# Altium footprint library Connector_PinSocket_1.27mm.PcbLib: 246 footprints (part 3 of 16)
Each footprint in its own frame and in the unit in brackets; x right, y up, seen from the top. Pads: shape width x height; smd on the part's side, far side on the other; paste and mask are expansions set on the pad; w line width, h text height; cw(c..) or ccw(c..) is an arc to the next point about the centre after c.
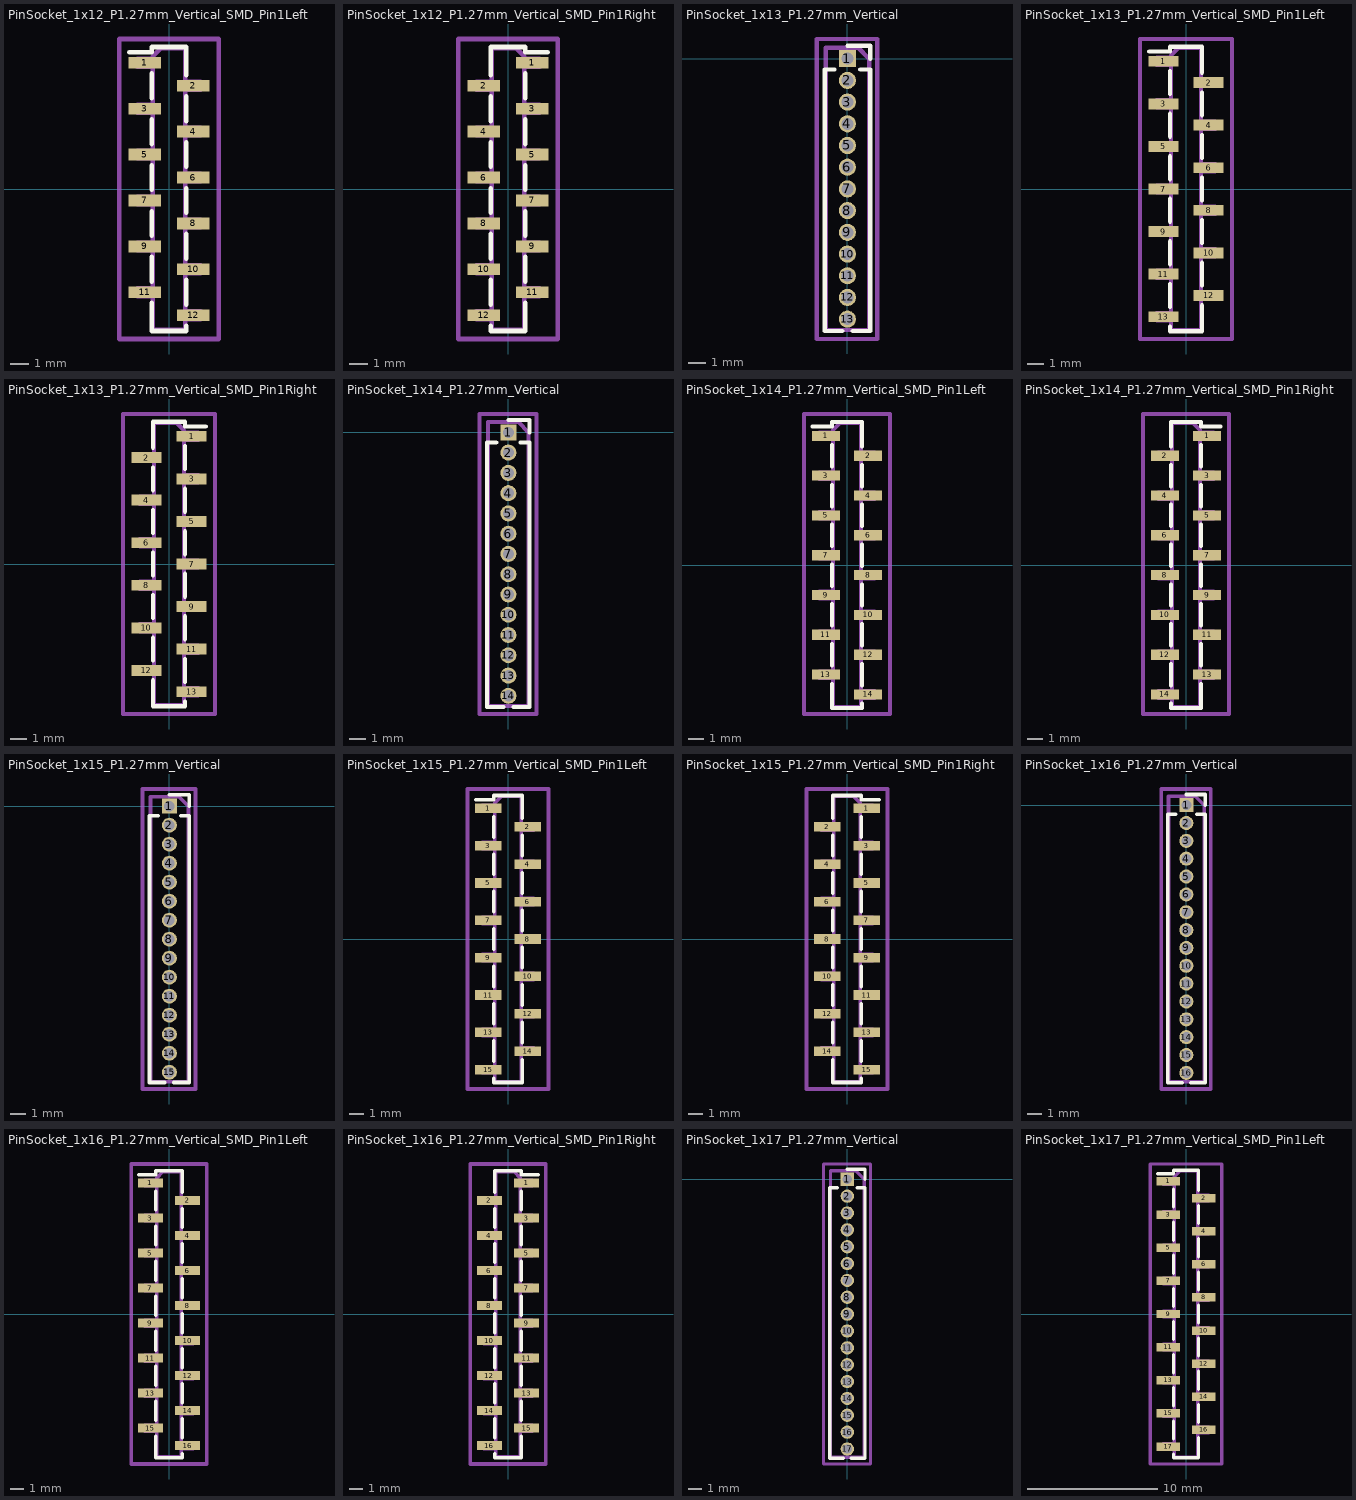
[diagram p2: the footprints below, top view; thin cyan lines are the x and y axes]

## PinSocket_1x12_P1.27mm_Vertical_SMD_Pin1Left [mm]
pads (12):
  rect 1.8x0.65 smd: 1(-1.35,6.985) 2(1.35,5.715) 3(-1.35,4.445) 4(1.35,3.175) 5(-1.35,1.905) 6(1.35,0.635) 7(-1.35,-0.635) 8(1.35,-1.905) 9(-1.35,-3.175) 10(1.35,-4.445) 11(-1.35,-5.715) 12(1.35,-6.985)
F.SilkS:
  lines w0.254: -2.19,7.57 -0.96,7.57 -0.96,7.855 0.96,7.855 0.96,6.3 ; -0.96,-6.3 -0.96,-7.855 0.96,-7.855 0.96,-7.57 ; -0.96,-5.13 -0.96,-3.76 ; -0.96,-2.59 -0.96,-1.22 ; -0.96,-0.05 -0.96,1.32 ; -0.96,2.49 -0.96,3.86 ; -0.96,5.03 -0.96,6.4 ; 0.96,-6.4 0.96,-5.03 ; 0.96,-3.86 0.96,-2.49 ; 0.96,-1.32 0.96,0.05 ; 0.96,1.22 0.96,2.59 ; 0.96,3.76 0.96,5.13
Top Assembly:
  lines w0.254: -0.9,-5.925 -1.75,-5.925 -1.75,-5.505 -0.9,-5.505 ; -0.9,-3.385 -1.75,-3.385 -1.75,-2.965 -0.9,-2.965 ; -0.9,-0.845 -1.75,-0.845 -1.75,-0.425 -0.9,-0.425 ; -0.9,1.695 -1.75,1.695 -1.75,2.115 -0.9,2.115 ; -0.9,4.235 -1.75,4.235 -1.75,4.655 -0.9,4.655 ; -0.9,6.775 -1.75,6.775 -1.75,7.195 -0.9,7.195 ; 0.9,-7.195 1.75,-7.195 1.75,-6.775 0.9,-6.775 ; 0.9,-4.655 1.75,-4.655 1.75,-4.235 0.9,-4.235 ; 0.9,-2.115 1.75,-2.115 1.75,-1.695 0.9,-1.695 ; 0.9,0.425 1.75,0.425 1.75,0.845 0.9,0.845 ; 0.9,2.965 1.75,2.965 1.75,3.385 0.9,3.385 ; 0.9,5.505 1.75,5.505 1.75,5.925 0.9,5.925 ; -0.9,-7.795 0.9,-7.795 0.9,7.795 -0.45,7.795 -0.9,7.345 -0.9,-7.795
  text "'.Designator'" at 0.84,-4.047 h1
Top Courtyard:
  lines w0.254: -2.75,-8.3 2.75,-8.3 2.75,8.3 -2.75,8.3 -2.75,-8.3
Top Designator:
  text ".Designator" at -7.618,-0.508 h1.52

## PinSocket_1x12_P1.27mm_Vertical_SMD_Pin1Right [mm]
pads (12):
  rect 1.8x0.65 smd: 1(1.35,6.985) 2(-1.35,5.715) 3(1.35,4.445) 4(-1.35,3.175) 5(1.35,1.905) 6(-1.35,0.635) 7(1.35,-0.635) 8(-1.35,-1.905) 9(1.35,-3.175) 10(-1.35,-4.445) 11(1.35,-5.715) 12(-1.35,-6.985)
F.SilkS:
  lines w0.254: -0.96,-7.57 -0.96,-7.855 0.96,-7.855 0.96,-6.3 ; -0.96,-6.4 -0.96,-5.03 ; -0.96,-3.86 -0.96,-2.49 ; -0.96,-1.32 -0.96,0.05 ; -0.96,1.22 -0.96,2.59 ; -0.96,3.76 -0.96,5.13 ; -0.96,6.3 -0.96,7.855 0.96,7.855 0.96,7.57 2.19,7.57 ; 0.96,-5.13 0.96,-3.76 ; 0.96,-2.59 0.96,-1.22 ; 0.96,-0.05 0.96,1.32 ; 0.96,2.49 0.96,3.86 ; 0.96,5.03 0.96,6.4
Top Assembly:
  lines w0.254: -0.9,-7.195 -1.75,-7.195 -1.75,-6.775 -0.9,-6.775 ; -0.9,-4.655 -1.75,-4.655 -1.75,-4.235 -0.9,-4.235 ; -0.9,-2.115 -1.75,-2.115 -1.75,-1.695 -0.9,-1.695 ; -0.9,0.425 -1.75,0.425 -1.75,0.845 -0.9,0.845 ; -0.9,2.965 -1.75,2.965 -1.75,3.385 -0.9,3.385 ; -0.9,5.505 -1.75,5.505 -1.75,5.925 -0.9,5.925 ; 0.9,-5.925 1.75,-5.925 1.75,-5.505 0.9,-5.505 ; 0.9,-3.385 1.75,-3.385 1.75,-2.965 0.9,-2.965 ; 0.9,-0.845 1.75,-0.845 1.75,-0.425 0.9,-0.425 ; 0.9,1.695 1.75,1.695 1.75,2.115 0.9,2.115 ; 0.9,4.235 1.75,4.235 1.75,4.655 0.9,4.655 ; 0.9,6.775 1.75,6.775 1.75,7.195 0.9,7.195 ; -0.9,-7.795 0.9,-7.795 0.9,7.345 0.45,7.795 -0.9,7.795 -0.9,-7.795
  text "'.Designator'" at 0.84,-4.047 h1
Top Courtyard:
  lines w0.254: -2.75,-8.3 2.75,-8.3 2.75,8.3 -2.75,8.3 -2.75,-8.3
Top Designator:
  text ".Designator" at -7.618,-0.508 h1.52

## PinSocket_1x13_P1.27mm_Vertical [mm]
pads (13):
  rect 1x1 hole 0.7: 1(0,0)
  round 1 hole 0.7: 2(0,-1.27) 3(0,-2.54) 4(0,-3.81) 5(0,-5.08) 6(0,-6.35) 7(0,-7.62) 8(0,-8.89) 9(0,-10.16) 10(0,-11.43) 11(0,-12.7) 12(0,-13.97) 13(0,-15.24)
F.SilkS:
  lines w0.254: -0.76,-0.635 -1.33,-0.635 -1.33,-15.935 -0.308,-15.935 ; 0,0.76 1.33,0.76 1.33,0 ; 0.308,-15.935 1.33,-15.935 1.33,-0.635 0.76,-0.635
Top Assembly:
  lines w0.254: -1.27,-15.875 1.27,-15.875 1.27,0 0.635,0.635 -1.27,0.635 -1.27,-15.875
  text "'.Designator'" at 0.84,-11.667 h1
Top Courtyard:
  lines w0.254: -1.8,-16.4 1.75,-16.4 1.75,1.15 -1.8,1.15 -1.8,-16.4
Top Designator:
  text ".Designator" at -7.643,-8.133 h1.52

## PinSocket_1x13_P1.27mm_Vertical_SMD_Pin1Left [mm]
pads (13):
  rect 1.8x0.65 smd: 1(-1.35,7.62) 2(1.35,6.35) 3(-1.35,5.08) 4(1.35,3.81) 5(-1.35,2.54) 6(1.35,1.27) 7(-1.35,0) 8(1.35,-1.27) 9(-1.35,-2.54) 10(1.35,-3.81) 11(-1.35,-5.08) 12(1.35,-6.35) 13(-1.35,-7.62)
F.SilkS:
  lines w0.254: -2.19,8.205 -0.96,8.205 -0.96,8.49 0.96,8.49 0.96,6.935 ; -0.96,-8.205 -0.96,-8.49 0.96,-8.49 0.96,-6.935 ; -0.96,-7.035 -0.96,-5.665 ; -0.96,-4.495 -0.96,-3.125 ; -0.96,-1.955 -0.96,-0.585 ; -0.96,0.585 -0.96,1.955 ; -0.96,3.125 -0.96,4.495 ; -0.96,5.665 -0.96,7.035 ; 0.96,-5.765 0.96,-4.395 ; 0.96,-3.225 0.96,-1.855 ; 0.96,-0.685 0.96,0.685 ; 0.96,1.855 0.96,3.225 ; 0.96,4.395 0.96,5.765
Top Assembly:
  lines w0.254: -0.9,-7.83 -1.75,-7.83 -1.75,-7.41 -0.9,-7.41 ; -0.9,-5.29 -1.75,-5.29 -1.75,-4.87 -0.9,-4.87 ; -0.9,-2.75 -1.75,-2.75 -1.75,-2.33 -0.9,-2.33 ; -0.9,-0.21 -1.75,-0.21 -1.75,0.21 -0.9,0.21 ; -0.9,2.33 -1.75,2.33 -1.75,2.75 -0.9,2.75 ; -0.9,4.87 -1.75,4.87 -1.75,5.29 -0.9,5.29 ; -0.9,7.41 -1.75,7.41 -1.75,7.83 -0.9,7.83 ; 0.9,-6.56 1.75,-6.56 1.75,-6.14 0.9,-6.14 ; 0.9,-4.02 1.75,-4.02 1.75,-3.6 0.9,-3.6 ; 0.9,-1.48 1.75,-1.48 1.75,-1.06 0.9,-1.06 ; 0.9,1.06 1.75,1.06 1.75,1.48 0.9,1.48 ; 0.9,3.6 1.75,3.6 1.75,4.02 0.9,4.02 ; 0.9,6.14 1.75,6.14 1.75,6.56 0.9,6.56 ; -0.9,-8.43 0.9,-8.43 0.9,8.43 -0.45,8.43 -0.9,7.98 -0.9,-8.43
  text "'.Designator'" at 0.84,-4.047 h1
Top Courtyard:
  lines w0.254: -2.75,-8.95 2.75,-8.95 2.75,8.95 -2.75,8.95 -2.75,-8.95
Top Designator:
  text ".Designator" at -7.618,-0.508 h1.52

## PinSocket_1x13_P1.27mm_Vertical_SMD_Pin1Right [mm]
pads (13):
  rect 1.8x0.65 smd: 1(1.35,7.62) 2(-1.35,6.35) 3(1.35,5.08) 4(-1.35,3.81) 5(1.35,2.54) 6(-1.35,1.27) 7(1.35,0) 8(-1.35,-1.27) 9(1.35,-2.54) 10(-1.35,-3.81) 11(1.35,-5.08) 12(-1.35,-6.35) 13(1.35,-7.62)
F.SilkS:
  lines w0.254: -0.96,-6.935 -0.96,-8.49 0.96,-8.49 0.96,-8.205 ; -0.96,-5.765 -0.96,-4.395 ; -0.96,-3.225 -0.96,-1.855 ; -0.96,-0.685 -0.96,0.685 ; -0.96,1.855 -0.96,3.225 ; -0.96,4.395 -0.96,5.765 ; -0.96,6.935 -0.96,8.49 0.96,8.49 0.96,8.205 2.19,8.205 ; 0.96,-7.035 0.96,-5.665 ; 0.96,-4.495 0.96,-3.125 ; 0.96,-1.955 0.96,-0.585 ; 0.96,0.585 0.96,1.955 ; 0.96,3.125 0.96,4.495 ; 0.96,5.665 0.96,7.035
Top Assembly:
  lines w0.254: -0.9,-6.56 -1.75,-6.56 -1.75,-6.14 -0.9,-6.14 ; -0.9,-4.02 -1.75,-4.02 -1.75,-3.6 -0.9,-3.6 ; -0.9,-1.48 -1.75,-1.48 -1.75,-1.06 -0.9,-1.06 ; -0.9,1.06 -1.75,1.06 -1.75,1.48 -0.9,1.48 ; -0.9,3.6 -1.75,3.6 -1.75,4.02 -0.9,4.02 ; -0.9,6.14 -1.75,6.14 -1.75,6.56 -0.9,6.56 ; 0.9,-7.83 1.75,-7.83 1.75,-7.41 0.9,-7.41 ; 0.9,-5.29 1.75,-5.29 1.75,-4.87 0.9,-4.87 ; 0.9,-2.75 1.75,-2.75 1.75,-2.33 0.9,-2.33 ; 0.9,-0.21 1.75,-0.21 1.75,0.21 0.9,0.21 ; 0.9,2.33 1.75,2.33 1.75,2.75 0.9,2.75 ; 0.9,4.87 1.75,4.87 1.75,5.29 0.9,5.29 ; 0.9,7.41 1.75,7.41 1.75,7.83 0.9,7.83 ; -0.9,-8.43 0.9,-8.43 0.9,7.98 0.45,8.43 -0.9,8.43 -0.9,-8.43
  text "'.Designator'" at 0.84,-4.047 h1
Top Courtyard:
  lines w0.254: -2.75,-8.95 2.75,-8.95 2.75,8.95 -2.75,8.95 -2.75,-8.95
Top Designator:
  text ".Designator" at -7.618,-0.508 h1.52

## PinSocket_1x14_P1.27mm_Vertical [mm]
pads (14):
  rect 1x1 hole 0.7: 1(0,0)
  round 1 hole 0.7: 2(0,-1.27) 3(0,-2.54) 4(0,-3.81) 5(0,-5.08) 6(0,-6.35) 7(0,-7.62) 8(0,-8.89) 9(0,-10.16) 10(0,-11.43) 11(0,-12.7) 12(0,-13.97) 13(0,-15.24) 14(0,-16.51)
F.SilkS:
  lines w0.254: -0.76,-0.635 -1.33,-0.635 -1.33,-17.205 -0.308,-17.205 ; 0,0.76 1.33,0.76 1.33,0 ; 0.308,-17.205 1.33,-17.205 1.33,-0.635 0.76,-0.635
Top Assembly:
  lines w0.254: -1.27,-17.145 1.27,-17.145 1.27,0 0.635,0.635 -1.27,0.635 -1.27,-17.145
  text "'.Designator'" at 0.84,-12.302 h1
Top Courtyard:
  lines w0.254: -1.8,-17.65 1.75,-17.65 1.75,1.15 -1.8,1.15 -1.8,-17.65
Top Designator:
  text ".Designator" at -7.643,-8.758 h1.52

## PinSocket_1x14_P1.27mm_Vertical_SMD_Pin1Left [mm]
pads (14):
  rect 1.8x0.65 smd: 1(-1.35,8.255) 2(1.35,6.985) 3(-1.35,5.715) 4(1.35,4.445) 5(-1.35,3.175) 6(1.35,1.905) 7(-1.35,0.635) 8(1.35,-0.635) 9(-1.35,-1.905) 10(1.35,-3.175) 11(-1.35,-4.445) 12(1.35,-5.715) 13(-1.35,-6.985) 14(1.35,-8.255)
F.SilkS:
  lines w0.254: -2.19,8.84 -0.96,8.84 -0.96,9.125 0.96,9.125 0.96,7.57 ; -0.96,-7.57 -0.96,-9.125 0.96,-9.125 0.96,-8.84 ; -0.96,-6.4 -0.96,-5.03 ; -0.96,-3.86 -0.96,-2.49 ; -0.96,-1.32 -0.96,0.05 ; -0.96,1.22 -0.96,2.59 ; -0.96,3.76 -0.96,5.13 ; -0.96,6.3 -0.96,7.67 ; 0.96,-7.67 0.96,-6.3 ; 0.96,-5.13 0.96,-3.76 ; 0.96,-2.59 0.96,-1.22 ; 0.96,-0.05 0.96,1.32 ; 0.96,2.49 0.96,3.86 ; 0.96,5.03 0.96,6.4
Top Assembly:
  lines w0.254: -0.9,-7.195 -1.75,-7.195 -1.75,-6.775 -0.9,-6.775 ; -0.9,-4.655 -1.75,-4.655 -1.75,-4.235 -0.9,-4.235 ; -0.9,-2.115 -1.75,-2.115 -1.75,-1.695 -0.9,-1.695 ; -0.9,0.425 -1.75,0.425 -1.75,0.845 -0.9,0.845 ; -0.9,2.965 -1.75,2.965 -1.75,3.385 -0.9,3.385 ; -0.9,5.505 -1.75,5.505 -1.75,5.925 -0.9,5.925 ; -0.9,8.045 -1.75,8.045 -1.75,8.465 -0.9,8.465 ; 0.9,-8.465 1.75,-8.465 1.75,-8.045 0.9,-8.045 ; 0.9,-5.925 1.75,-5.925 1.75,-5.505 0.9,-5.505 ; 0.9,-3.385 1.75,-3.385 1.75,-2.965 0.9,-2.965 ; 0.9,-0.845 1.75,-0.845 1.75,-0.425 0.9,-0.425 ; 0.9,1.695 1.75,1.695 1.75,2.115 0.9,2.115 ; 0.9,4.235 1.75,4.235 1.75,4.655 0.9,4.655 ; 0.9,6.775 1.75,6.775 1.75,7.195 0.9,7.195 ; -0.9,-9.065 0.9,-9.065 0.9,9.065 -0.45,9.065 -0.9,8.615 -0.9,-9.065
  text "'.Designator'" at 0.84,-4.047 h1
Top Courtyard:
  lines w0.254: -2.75,-9.5 2.75,-9.5 2.75,9.65 -2.75,9.65 -2.75,-9.5
Top Designator:
  text ".Designator" at -7.618,-0.433 h1.52

## PinSocket_1x14_P1.27mm_Vertical_SMD_Pin1Right [mm]
pads (14):
  rect 1.8x0.65 smd: 1(1.35,8.255) 2(-1.35,6.985) 3(1.35,5.715) 4(-1.35,4.445) 5(1.35,3.175) 6(-1.35,1.905) 7(1.35,0.635) 8(-1.35,-0.635) 9(1.35,-1.905) 10(-1.35,-3.175) 11(1.35,-4.445) 12(-1.35,-5.715) 13(1.35,-6.985) 14(-1.35,-8.255)
F.SilkS:
  lines w0.254: -0.96,-8.84 -0.96,-9.125 0.96,-9.125 0.96,-7.57 ; -0.96,-7.67 -0.96,-6.3 ; -0.96,-5.13 -0.96,-3.76 ; -0.96,-2.59 -0.96,-1.22 ; -0.96,-0.05 -0.96,1.32 ; -0.96,2.49 -0.96,3.86 ; -0.96,5.03 -0.96,6.4 ; -0.96,7.57 -0.96,9.125 0.96,9.125 0.96,8.84 2.19,8.84 ; 0.96,-6.4 0.96,-5.03 ; 0.96,-3.86 0.96,-2.49 ; 0.96,-1.32 0.96,0.05 ; 0.96,1.22 0.96,2.59 ; 0.96,3.76 0.96,5.13 ; 0.96,6.3 0.96,7.67
Top Assembly:
  lines w0.254: -0.9,-8.465 -1.75,-8.465 -1.75,-8.045 -0.9,-8.045 ; -0.9,-5.925 -1.75,-5.925 -1.75,-5.505 -0.9,-5.505 ; -0.9,-3.385 -1.75,-3.385 -1.75,-2.965 -0.9,-2.965 ; -0.9,-0.845 -1.75,-0.845 -1.75,-0.425 -0.9,-0.425 ; -0.9,1.695 -1.75,1.695 -1.75,2.115 -0.9,2.115 ; -0.9,4.235 -1.75,4.235 -1.75,4.655 -0.9,4.655 ; -0.9,6.775 -1.75,6.775 -1.75,7.195 -0.9,7.195 ; 0.9,-7.195 1.75,-7.195 1.75,-6.775 0.9,-6.775 ; 0.9,-4.655 1.75,-4.655 1.75,-4.235 0.9,-4.235 ; 0.9,-2.115 1.75,-2.115 1.75,-1.695 0.9,-1.695 ; 0.9,0.425 1.75,0.425 1.75,0.845 0.9,0.845 ; 0.9,2.965 1.75,2.965 1.75,3.385 0.9,3.385 ; 0.9,5.505 1.75,5.505 1.75,5.925 0.9,5.925 ; 0.9,8.045 1.75,8.045 1.75,8.465 0.9,8.465 ; -0.9,-9.065 0.9,-9.065 0.9,8.615 0.45,9.065 -0.9,9.065 -0.9,-9.065
  text "'.Designator'" at 0.84,-4.047 h1
Top Courtyard:
  lines w0.254: -2.75,-9.5 2.75,-9.5 2.75,9.65 -2.75,9.65 -2.75,-9.5
Top Designator:
  text ".Designator" at -7.618,-0.433 h1.52

## PinSocket_1x15_P1.27mm_Vertical [mm]
pads (15):
  rect 1x1 hole 0.7: 1(0,0)
  round 1 hole 0.7: 2(0,-1.27) 3(0,-2.54) 4(0,-3.81) 5(0,-5.08) 6(0,-6.35) 7(0,-7.62) 8(0,-8.89) 9(0,-10.16) 10(0,-11.43) 11(0,-12.7) 12(0,-13.97) 13(0,-15.24) 14(0,-16.51) 15(0,-17.78)
F.SilkS:
  lines w0.254: -0.76,-0.635 -1.33,-0.635 -1.33,-18.475 -0.308,-18.475 ; 0,0.76 1.33,0.76 1.33,0 ; 0.308,-18.475 1.33,-18.475 1.33,-0.635 0.76,-0.635
Top Assembly:
  lines w0.254: -1.27,-18.415 1.27,-18.415 1.27,0 0.635,0.635 -1.27,0.635 -1.27,-18.415
  text "'.Designator'" at 0.84,-12.937 h1
Top Courtyard:
  lines w0.254: -1.8,-18.9 1.75,-18.9 1.75,1.15 -1.8,1.15 -1.8,-18.9
Top Designator:
  text ".Designator" at -7.643,-9.383 h1.52

## PinSocket_1x15_P1.27mm_Vertical_SMD_Pin1Left [mm]
pads (15):
  rect 1.8x0.65 smd: 1(-1.35,8.89) 2(1.35,7.62) 3(-1.35,6.35) 4(1.35,5.08) 5(-1.35,3.81) 6(1.35,2.54) 7(-1.35,1.27) 8(1.35,0) 9(-1.35,-1.27) 10(1.35,-2.54) 11(-1.35,-3.81) 12(1.35,-5.08) 13(-1.35,-6.35) 14(1.35,-7.62) 15(-1.35,-8.89)
F.SilkS:
  lines w0.254: -2.19,9.475 -0.96,9.475 -0.96,9.76 0.96,9.76 0.96,8.205 ; -0.96,-9.475 -0.96,-9.76 0.96,-9.76 0.96,-8.205 ; -0.96,-8.305 -0.96,-6.935 ; -0.96,-5.765 -0.96,-4.395 ; -0.96,-3.225 -0.96,-1.855 ; -0.96,-0.685 -0.96,0.685 ; -0.96,1.855 -0.96,3.225 ; -0.96,4.395 -0.96,5.765 ; -0.96,6.935 -0.96,8.305 ; 0.96,-7.035 0.96,-5.665 ; 0.96,-4.495 0.96,-3.125 ; 0.96,-1.955 0.96,-0.585 ; 0.96,0.585 0.96,1.955 ; 0.96,3.125 0.96,4.495 ; 0.96,5.665 0.96,7.035
Top Assembly:
  lines w0.254: -0.9,-9.1 -1.75,-9.1 -1.75,-8.68 -0.9,-8.68 ; -0.9,-6.56 -1.75,-6.56 -1.75,-6.14 -0.9,-6.14 ; -0.9,-4.02 -1.75,-4.02 -1.75,-3.6 -0.9,-3.6 ; -0.9,-1.48 -1.75,-1.48 -1.75,-1.06 -0.9,-1.06 ; -0.9,1.06 -1.75,1.06 -1.75,1.48 -0.9,1.48 ; -0.9,3.6 -1.75,3.6 -1.75,4.02 -0.9,4.02 ; -0.9,6.14 -1.75,6.14 -1.75,6.56 -0.9,6.56 ; -0.9,8.68 -1.75,8.68 -1.75,9.1 -0.9,9.1 ; 0.9,-7.83 1.75,-7.83 1.75,-7.41 0.9,-7.41 ; 0.9,-5.29 1.75,-5.29 1.75,-4.87 0.9,-4.87 ; 0.9,-2.75 1.75,-2.75 1.75,-2.33 0.9,-2.33 ; 0.9,-0.21 1.75,-0.21 1.75,0.21 0.9,0.21 ; 0.9,2.33 1.75,2.33 1.75,2.75 0.9,2.75 ; 0.9,4.87 1.75,4.87 1.75,5.29 0.9,5.29 ; 0.9,7.41 1.75,7.41 1.75,7.83 0.9,7.83 ; -0.9,-9.7 0.9,-9.7 0.9,9.7 -0.45,9.7 -0.9,9.25 -0.9,-9.7
  text "'.Designator'" at 0.84,-4.047 h1
Top Courtyard:
  lines w0.254: -2.75,-10.2 2.75,-10.2 2.75,10.2 -2.75,10.2 -2.75,-10.2
Top Designator:
  text ".Designator" at -7.618,-0.508 h1.52

## PinSocket_1x15_P1.27mm_Vertical_SMD_Pin1Right [mm]
pads (15):
  rect 1.8x0.65 smd: 1(1.35,8.89) 2(-1.35,7.62) 3(1.35,6.35) 4(-1.35,5.08) 5(1.35,3.81) 6(-1.35,2.54) 7(1.35,1.27) 8(-1.35,0) 9(1.35,-1.27) 10(-1.35,-2.54) 11(1.35,-3.81) 12(-1.35,-5.08) 13(1.35,-6.35) 14(-1.35,-7.62) 15(1.35,-8.89)
F.SilkS:
  lines w0.254: -0.96,-8.205 -0.96,-9.76 0.96,-9.76 0.96,-9.475 ; -0.96,-7.035 -0.96,-5.665 ; -0.96,-4.495 -0.96,-3.125 ; -0.96,-1.955 -0.96,-0.585 ; -0.96,0.585 -0.96,1.955 ; -0.96,3.125 -0.96,4.495 ; -0.96,5.665 -0.96,7.035 ; -0.96,8.205 -0.96,9.76 0.96,9.76 0.96,9.475 2.19,9.475 ; 0.96,-8.305 0.96,-6.935 ; 0.96,-5.765 0.96,-4.395 ; 0.96,-3.225 0.96,-1.855 ; 0.96,-0.685 0.96,0.685 ; 0.96,1.855 0.96,3.225 ; 0.96,4.395 0.96,5.765 ; 0.96,6.935 0.96,8.305
Top Assembly:
  lines w0.254: -0.9,-7.83 -1.75,-7.83 -1.75,-7.41 -0.9,-7.41 ; -0.9,-5.29 -1.75,-5.29 -1.75,-4.87 -0.9,-4.87 ; -0.9,-2.75 -1.75,-2.75 -1.75,-2.33 -0.9,-2.33 ; -0.9,-0.21 -1.75,-0.21 -1.75,0.21 -0.9,0.21 ; -0.9,2.33 -1.75,2.33 -1.75,2.75 -0.9,2.75 ; -0.9,4.87 -1.75,4.87 -1.75,5.29 -0.9,5.29 ; -0.9,7.41 -1.75,7.41 -1.75,7.83 -0.9,7.83 ; 0.9,-9.1 1.75,-9.1 1.75,-8.68 0.9,-8.68 ; 0.9,-6.56 1.75,-6.56 1.75,-6.14 0.9,-6.14 ; 0.9,-4.02 1.75,-4.02 1.75,-3.6 0.9,-3.6 ; 0.9,-1.48 1.75,-1.48 1.75,-1.06 0.9,-1.06 ; 0.9,1.06 1.75,1.06 1.75,1.48 0.9,1.48 ; 0.9,3.6 1.75,3.6 1.75,4.02 0.9,4.02 ; 0.9,6.14 1.75,6.14 1.75,6.56 0.9,6.56 ; 0.9,8.68 1.75,8.68 1.75,9.1 0.9,9.1 ; -0.9,-9.7 0.9,-9.7 0.9,9.25 0.45,9.7 -0.9,9.7 -0.9,-9.7
  text "'.Designator'" at 0.84,-4.047 h1
Top Courtyard:
  lines w0.254: -2.75,-10.2 2.75,-10.2 2.75,10.2 -2.75,10.2 -2.75,-10.2
Top Designator:
  text ".Designator" at -7.618,-0.508 h1.52

## PinSocket_1x16_P1.27mm_Vertical [mm]
pads (16):
  rect 1x1 hole 0.7: 1(0,0)
  round 1 hole 0.7: 2(0,-1.27) 3(0,-2.54) 4(0,-3.81) 5(0,-5.08) 6(0,-6.35) 7(0,-7.62) 8(0,-8.89) 9(0,-10.16) 10(0,-11.43) 11(0,-12.7) 12(0,-13.97) 13(0,-15.24) 14(0,-16.51) 15(0,-17.78) 16(0,-19.05)
F.SilkS:
  lines w0.254: -0.76,-0.635 -1.33,-0.635 -1.33,-19.745 -0.308,-19.745 ; 0,0.76 1.33,0.76 1.33,0 ; 0.308,-19.745 1.33,-19.745 1.33,-0.635 0.76,-0.635
Top Assembly:
  lines w0.254: -1.27,-19.685 1.27,-19.685 1.27,0 0.635,0.635 -1.27,0.635 -1.27,-19.685
  text "'.Designator'" at 0.84,-13.572 h1
Top Courtyard:
  lines w0.254: -1.8,-20.2 1.75,-20.2 1.75,1.15 -1.8,1.15 -1.8,-20.2
Top Designator:
  text ".Designator" at -7.643,-10.033 h1.52

## PinSocket_1x16_P1.27mm_Vertical_SMD_Pin1Left [mm]
pads (16):
  rect 1.8x0.65 smd: 1(-1.35,9.525) 2(1.35,8.255) 3(-1.35,6.985) 4(1.35,5.715) 5(-1.35,4.445) 6(1.35,3.175) 7(-1.35,1.905) 8(1.35,0.635) 9(-1.35,-0.635) 10(1.35,-1.905) 11(-1.35,-3.175) 12(1.35,-4.445) 13(-1.35,-5.715) 14(1.35,-6.985) 15(-1.35,-8.255) 16(1.35,-9.525)
F.SilkS:
  lines w0.254: -2.19,10.11 -0.96,10.11 -0.96,10.395 0.96,10.395 0.96,8.84 ; -0.96,-8.84 -0.96,-10.395 0.96,-10.395 0.96,-10.11 ; -0.96,-7.67 -0.96,-6.3 ; -0.96,-5.13 -0.96,-3.76 ; -0.96,-2.59 -0.96,-1.22 ; -0.96,-0.05 -0.96,1.32 ; -0.96,2.49 -0.96,3.86 ; -0.96,5.03 -0.96,6.4 ; -0.96,7.57 -0.96,8.94 ; 0.96,-8.94 0.96,-7.57 ; 0.96,-6.4 0.96,-5.03 ; 0.96,-3.86 0.96,-2.49 ; 0.96,-1.32 0.96,0.05 ; 0.96,1.22 0.96,2.59 ; 0.96,3.76 0.96,5.13 ; 0.96,6.3 0.96,7.67
Top Assembly:
  lines w0.254: -0.9,-8.465 -1.75,-8.465 -1.75,-8.045 -0.9,-8.045 ; -0.9,-5.925 -1.75,-5.925 -1.75,-5.505 -0.9,-5.505 ; -0.9,-3.385 -1.75,-3.385 -1.75,-2.965 -0.9,-2.965 ; -0.9,-0.845 -1.75,-0.845 -1.75,-0.425 -0.9,-0.425 ; -0.9,1.695 -1.75,1.695 -1.75,2.115 -0.9,2.115 ; -0.9,4.235 -1.75,4.235 -1.75,4.655 -0.9,4.655 ; -0.9,6.775 -1.75,6.775 -1.75,7.195 -0.9,7.195 ; -0.9,9.315 -1.75,9.315 -1.75,9.735 -0.9,9.735 ; 0.9,-9.735 1.75,-9.735 1.75,-9.315 0.9,-9.315 ; 0.9,-7.195 1.75,-7.195 1.75,-6.775 0.9,-6.775 ; 0.9,-4.655 1.75,-4.655 1.75,-4.235 0.9,-4.235 ; 0.9,-2.115 1.75,-2.115 1.75,-1.695 0.9,-1.695 ; 0.9,0.425 1.75,0.425 1.75,0.845 0.9,0.845 ; 0.9,2.965 1.75,2.965 1.75,3.385 0.9,3.385 ; 0.9,5.505 1.75,5.505 1.75,5.925 0.9,5.925 ; 0.9,8.045 1.75,8.045 1.75,8.465 0.9,8.465 ; -0.9,-10.335 0.9,-10.335 0.9,10.335 -0.45,10.335 -0.9,9.885 -0.9,-10.335
  text "'.Designator'" at 0.84,-4.047 h1
Top Courtyard:
  lines w0.254: -2.75,-10.85 2.75,-10.85 2.75,10.9 -2.75,10.9 -2.75,-10.85
Top Designator:
  text ".Designator" at -7.618,-0.483 h1.52

## PinSocket_1x16_P1.27mm_Vertical_SMD_Pin1Right [mm]
pads (16):
  rect 1.8x0.65 smd: 1(1.35,9.525) 2(-1.35,8.255) 3(1.35,6.985) 4(-1.35,5.715) 5(1.35,4.445) 6(-1.35,3.175) 7(1.35,1.905) 8(-1.35,0.635) 9(1.35,-0.635) 10(-1.35,-1.905) 11(1.35,-3.175) 12(-1.35,-4.445) 13(1.35,-5.715) 14(-1.35,-6.985) 15(1.35,-8.255) 16(-1.35,-9.525)
F.SilkS:
  lines w0.254: -0.96,-10.11 -0.96,-10.395 0.96,-10.395 0.96,-8.84 ; -0.96,-8.94 -0.96,-7.57 ; -0.96,-6.4 -0.96,-5.03 ; -0.96,-3.86 -0.96,-2.49 ; -0.96,-1.32 -0.96,0.05 ; -0.96,1.22 -0.96,2.59 ; -0.96,3.76 -0.96,5.13 ; -0.96,6.3 -0.96,7.67 ; -0.96,8.84 -0.96,10.395 0.96,10.395 0.96,10.11 2.19,10.11 ; 0.96,-7.67 0.96,-6.3 ; 0.96,-5.13 0.96,-3.76 ; 0.96,-2.59 0.96,-1.22 ; 0.96,-0.05 0.96,1.32 ; 0.96,2.49 0.96,3.86 ; 0.96,5.03 0.96,6.4 ; 0.96,7.57 0.96,8.94
Top Assembly:
  lines w0.254: -0.9,-9.735 -1.75,-9.735 -1.75,-9.315 -0.9,-9.315 ; -0.9,-7.195 -1.75,-7.195 -1.75,-6.775 -0.9,-6.775 ; -0.9,-4.655 -1.75,-4.655 -1.75,-4.235 -0.9,-4.235 ; -0.9,-2.115 -1.75,-2.115 -1.75,-1.695 -0.9,-1.695 ; -0.9,0.425 -1.75,0.425 -1.75,0.845 -0.9,0.845 ; -0.9,2.965 -1.75,2.965 -1.75,3.385 -0.9,3.385 ; -0.9,5.505 -1.75,5.505 -1.75,5.925 -0.9,5.925 ; -0.9,8.045 -1.75,8.045 -1.75,8.465 -0.9,8.465 ; 0.9,-8.465 1.75,-8.465 1.75,-8.045 0.9,-8.045 ; 0.9,-5.925 1.75,-5.925 1.75,-5.505 0.9,-5.505 ; 0.9,-3.385 1.75,-3.385 1.75,-2.965 0.9,-2.965 ; 0.9,-0.845 1.75,-0.845 1.75,-0.425 0.9,-0.425 ; 0.9,1.695 1.75,1.695 1.75,2.115 0.9,2.115 ; 0.9,4.235 1.75,4.235 1.75,4.655 0.9,4.655 ; 0.9,6.775 1.75,6.775 1.75,7.195 0.9,7.195 ; 0.9,9.315 1.75,9.315 1.75,9.735 0.9,9.735 ; -0.9,-10.335 0.9,-10.335 0.9,9.885 0.45,10.335 -0.9,10.335 -0.9,-10.335
  text "'.Designator'" at 0.84,-4.047 h1
Top Courtyard:
  lines w0.254: -2.75,-10.85 2.75,-10.85 2.75,10.9 -2.75,10.9 -2.75,-10.85
Top Designator:
  text ".Designator" at -7.618,-0.483 h1.52

## PinSocket_1x17_P1.27mm_Vertical [mm]
pads (17):
  rect 1x1 hole 0.7: 1(0,0)
  round 1 hole 0.7: 2(0,-1.27) 3(0,-2.54) 4(0,-3.81) 5(0,-5.08) 6(0,-6.35) 7(0,-7.62) 8(0,-8.89) 9(0,-10.16) 10(0,-11.43) 11(0,-12.7) 12(0,-13.97) 13(0,-15.24) 14(0,-16.51) 15(0,-17.78) 16(0,-19.05) 17(0,-20.32)
F.SilkS:
  lines w0.254: -0.76,-0.635 -1.33,-0.635 -1.33,-21.015 -0.308,-21.015 ; 0,0.76 1.33,0.76 1.33,0 ; 0.308,-21.015 1.33,-21.015 1.33,-0.635 0.76,-0.635
Top Assembly:
  lines w0.254: -1.27,-20.955 1.27,-20.955 1.27,0 0.635,0.635 -1.27,0.635 -1.27,-20.955
  text "'.Designator'" at 0.84,-14.207 h1
Top Courtyard:
  lines w0.254: -1.8,-21.45 1.75,-21.45 1.75,1.15 -1.8,1.15 -1.8,-21.45
Top Designator:
  text ".Designator" at -7.643,-10.658 h1.52

## PinSocket_1x17_P1.27mm_Vertical_SMD_Pin1Left [mm]
pads (17):
  rect 1.8x0.65 smd: 1(-1.35,10.16) 2(1.35,8.89) 3(-1.35,7.62) 4(1.35,6.35) 5(-1.35,5.08) 6(1.35,3.81) 7(-1.35,2.54) 8(1.35,1.27) 9(-1.35,0) 10(1.35,-1.27) 11(-1.35,-2.54) 12(1.35,-3.81) 13(-1.35,-5.08) 14(1.35,-6.35) 15(-1.35,-7.62) 16(1.35,-8.89) 17(-1.35,-10.16)
F.SilkS:
  lines w0.254: -2.19,10.745 -0.96,10.745 -0.96,11.03 0.96,11.03 0.96,9.475 ; -0.96,-10.745 -0.96,-11.03 0.96,-11.03 0.96,-9.475 ; -0.96,-9.575 -0.96,-8.205 ; -0.96,-7.035 -0.96,-5.665 ; -0.96,-4.495 -0.96,-3.125 ; -0.96,-1.955 -0.96,-0.585 ; -0.96,0.585 -0.96,1.955 ; -0.96,3.125 -0.96,4.495 ; -0.96,5.665 -0.96,7.035 ; -0.96,8.205 -0.96,9.575 ; 0.96,-8.305 0.96,-6.935 ; 0.96,-5.765 0.96,-4.395 ; 0.96,-3.225 0.96,-1.855 ; 0.96,-0.685 0.96,0.685 ; 0.96,1.855 0.96,3.225 ; 0.96,4.395 0.96,5.765 ; 0.96,6.935 0.96,8.305
Top Assembly:
  lines w0.254: -0.9,-10.37 -1.75,-10.37 -1.75,-9.95 -0.9,-9.95 ; -0.9,-7.83 -1.75,-7.83 -1.75,-7.41 -0.9,-7.41 ; -0.9,-5.29 -1.75,-5.29 -1.75,-4.87 -0.9,-4.87 ; -0.9,-2.75 -1.75,-2.75 -1.75,-2.33 -0.9,-2.33 ; -0.9,-0.21 -1.75,-0.21 -1.75,0.21 -0.9,0.21 ; -0.9,2.33 -1.75,2.33 -1.75,2.75 -0.9,2.75 ; -0.9,4.87 -1.75,4.87 -1.75,5.29 -0.9,5.29 ; -0.9,7.41 -1.75,7.41 -1.75,7.83 -0.9,7.83 ; -0.9,9.95 -1.75,9.95 -1.75,10.37 -0.9,10.37 ; 0.9,-9.1 1.75,-9.1 1.75,-8.68 0.9,-8.68 ; 0.9,-6.56 1.75,-6.56 1.75,-6.14 0.9,-6.14 ; 0.9,-4.02 1.75,-4.02 1.75,-3.6 0.9,-3.6 ; 0.9,-1.48 1.75,-1.48 1.75,-1.06 0.9,-1.06 ; 0.9,1.06 1.75,1.06 1.75,1.48 0.9,1.48 ; 0.9,3.6 1.75,3.6 1.75,4.02 0.9,4.02 ; 0.9,6.14 1.75,6.14 1.75,6.56 0.9,6.56 ; 0.9,8.68 1.75,8.68 1.75,9.1 0.9,9.1 ; -0.9,-10.97 0.9,-10.97 0.9,10.97 -0.45,10.97 -0.9,10.52 -0.9,-10.97
  text "'.Designator'" at 0.84,-4.047 h1
Top Courtyard:
  lines w0.254: -2.75,-11.5 2.75,-11.5 2.75,11.5 -2.75,11.5 -2.75,-11.5
Top Designator:
  text ".Designator" at -7.618,-0.508 h1.52